# Altium footprint library MLT8530.PcbLib: 1 footprints
Each footprint in its own frame and in the unit in brackets; x right, y up, seen from the top. Pads: shape width x height; smd on the part's side, far side on the other; paste and mask are expansions set on the pad; w line width, h text height; cw(c..) or ccw(c..) is an arc to the next point about the centre after c.
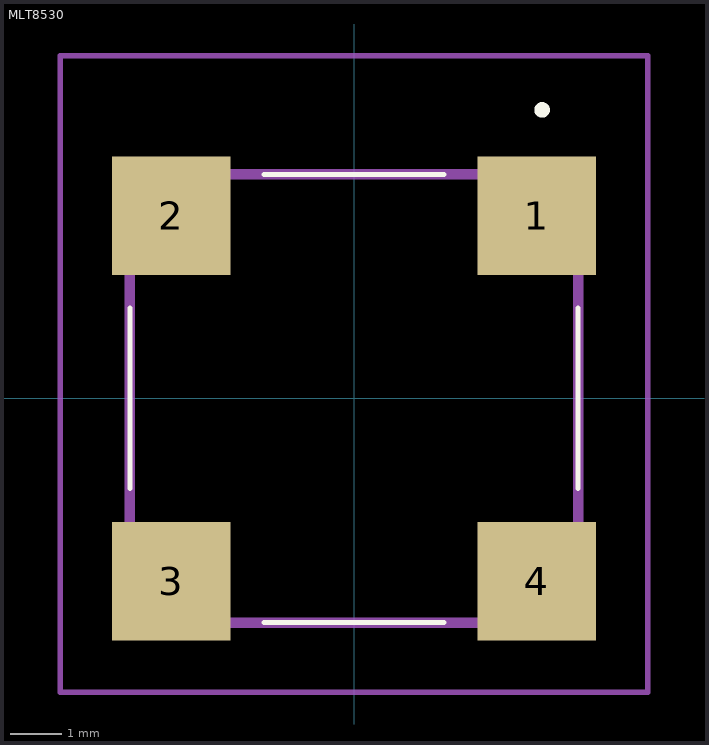
[diagram p0: the footprint, top view; thin cyan lines are the x and y axes]

## MLT8530 [mm]
pads (4):
  rect 2.3x2.3 smd: 1(3.55,3.55) 2(-3.55,3.55) 3(-3.55,-3.55) 4(3.55,-3.55)
Top Overlay:
  lines w0.1: -4.35,-1.75 -4.35,1.75 ; -4.35,-1.75 -4.35,-1.75 ; -4.35,-1.75 -4.35,1.75 ; -4.35,1.75 -4.35,1.75 ; -1.75,-4.35 1.75,-4.35 ; -1.75,-4.35 1.75,-4.35 ; -1.75,-4.35 -1.75,-4.35 ; -1.75,4.35 1.75,4.35 ; -1.75,4.35 -1.75,4.35 ; -1.75,4.35 1.75,4.35 ; 1.75,-4.35 1.75,-4.35 ; 1.75,4.35 1.75,4.35 ; 4.35,-1.75 4.35,-1.75 ; 4.35,-1.75 4.35,1.75 ; 4.35,-1.75 4.35,1.75 ; 4.35,1.75 4.35,1.75
  lines w0.2: 3.6,5.6 3.6,5.6 ; 3.6,5.6 ccw(c3.65,5.6) 3.7,5.6 ; 3.6,5.6 cw(c3.65,5.6) 3.7,5.6 ; 3.6,5.6 3.6,5.6 ; 3.6,5.6 ccw(c3.65,5.6) 3.7,5.6 ; 3.7,5.6 3.7,5.6
Mechanical 15:
  lines w0.2: -4.35,-4.35 4.35,-4.35 4.35,4.35 -4.35,4.35 -4.35,-4.35
Mechanical 20:
  lines w0.1: -5.7,-5.7 5.7,-5.7 5.7,6.65 -5.7,6.65 -5.7,-5.7